# Altium schematic symbol library SCH - BUFFERS - ONSEMI FIN1001M5X.SCHLIB: 1 symbol
Pins are listed as number, name and electrical type; pins without a type are passive.

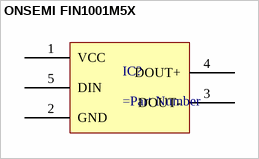
[diagram p0: symbol ONSEMI FIN1001M5X]

## ONSEMI FIN1001M5X
designator IC?
pins: 1 VCC, 2 GND, 3 DOUT-, 4 DOUT+, 5 DIN